# Altium footprint library 5055780271.PcbLib: 1 footprints
Each footprint in its own frame and in the unit in brackets; x right, y up, seen from the top. Pads: shape width x height; smd on the part's side, far side on the other; paste and mask are expansions set on the pad; w line width, h text height; cw(c..) or ccw(c..) is an arc to the next point about the centre after c.
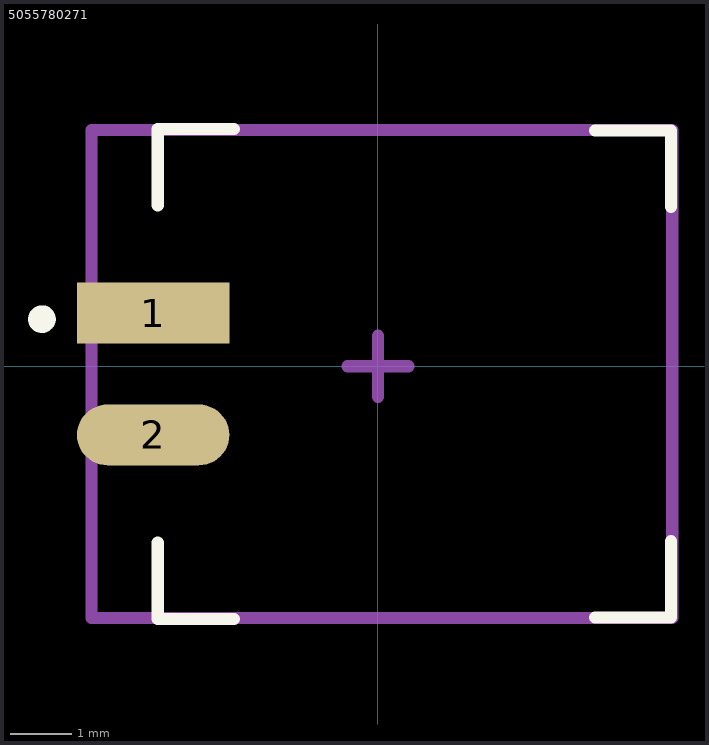
[diagram p0: the footprint, top view; thin cyan lines are the x and y axes]

## 5055780271 [mm]
pads (2):
  rect 2.5x1 smd mask+0.051: 1(-3.687,0.873)
  oval 2.5x1 smd mask+0.051: 2(-3.687,-1.127)
Top Overlay:
  circle w0.254: c-5.512,0.773 r0.1
  lines w0.2: -3.611,-2.896 -3.611,-4.146 -2.361,-4.146 ; -3.611,2.642 -3.611,3.892 -2.361,3.892 ; 3.559,-4.119 4.809,-4.119 4.809,-2.869 ; 3.559,3.865 4.809,3.865 4.809,2.615
Mechanical 13:
  lines w0.2: -4.699,-4.127 4.826,-4.127 4.826,3.873 -4.699,3.873 -4.699,-4.127
Mechanical 15:
  lines w0.2: -0.5,0 0.5,0 ; 0,-0.5 0,0.5
3D body "5055780271.stp": height 5.91, standoff 0.01, extent -4.637,-4.127 4.813,3.873